# Altium schematic symbol library Nordic.SchLib: 1 symbol
Pins are listed as number, name and electrical type; pins without a type are passive.

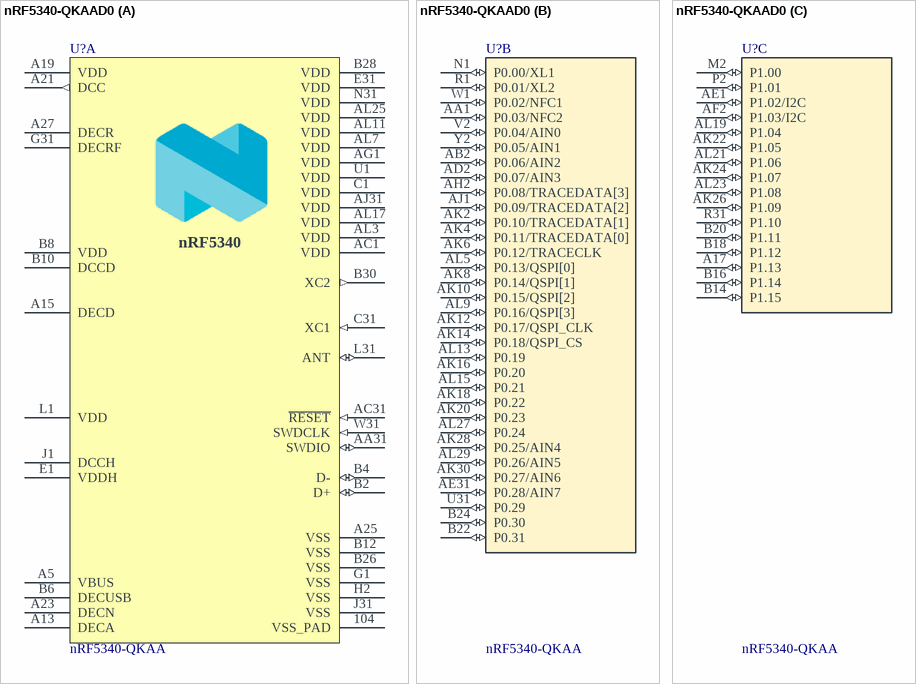
[diagram p0: symbol nRF5340-QKAAD0]

## nRF5340-QKAAD0
designator U?, comment nRF5340-QKAA
Multi-protocol Bluetooth Low Energy, IEEE 802.15.4, ANT and 2.4GHz proprietary system-on-chip; Manufacturer: Nordic Semiconductor; Manufacturer Part Number: nRF5340-QKAAD0; Pad Count: 98; Component Status: Active; Supply Voltage - Max: 5.5 V; Supply Voltage - Min: 1.7 V; Value: nRF5340-QKAA; Component Class: nRF_Devices; Author: rsk; Supplier 1 URL: https://www.mouser.sg/ProductDetail/Nordic-Semiconductor/nRF5340-CLAA-R7?qs=81r%252BiQLm7BTmf4A0GmRDng%3D%3D; Supplier 2 URL: N/A; Supplier 3 URL: N/A; Supplier 1: Mouser; Supplier 1 Part Number: nRF5340-QKAAD0; Supplier 2: Digi-Key; Supplier 2 Part Number: N/A; Supplier 3: thegioiic; Supplier 3 Part Number: N/A; Mount: SMD/SMT; Operating Temperature Max: + 85 C; Operating Temperature Min: - 40 C; Package / Case: AQFN-98; ComponentLink1Description: Datasheet; ComponentLink1URL: https://www.mouser.sg/datasheet/2/297/nRF5340_OPS_v0_5_1-1929595.pdf
footprint nRF5340-QKAAD0 (AQFN40P700X700X85_HS-99N)
part A pins: 104 VSS_PAD (power), A5 VBUS (power), A13 DECA (power), A15 DECD (power), A19 VDD (power), A21 DCC (out), A23 DECN (power), A25 VSS (power), A27 DECR (power), AA31 SWDIO (io), AC1 VDD (power), AC31 ~{RESET} (in), AG1 VDD (power), AG31 N.C. hidden, AJ31 VDD (power), AL3 VDD (power), AL7 VDD (power), AL11 VDD (power), AL17 VDD (power), AL25 VDD (power), B2 D+ (io), B4 D- (io), B6 DECUSB (power), B8 VDD (power), B10 DCCD (power), B12 VSS (power), B26 VSS (power), B28 VDD (power), B30 XC2 (out), C1 VDD (power), C31 XC1 (in), D2 N.C. hidden, E1 VDDH (power), E31 VDD (power), F2 N.C. hidden, G1 VSS (power), G31 DECRF (power), H2 VSS (power), J1 DCCH (power), J31 VSS (power), L1 VDD (power), L31 ANT (io), N31 VDD (power), T2 N.C. hidden, U1 VDD (power), W31 SWDCLK (in)
part B pins: AA1 P0.03/NFC2 (io), AB2 P0.06/AIN2 (io), AD2 P0.07/AIN3 (io), AE31 P0.28/AIN7 (io), AH2 P0.08/TRACEDATA[3] (io), AJ1 P0.09/TRACEDATA[2] (io), AK2 P0.10/TRACEDATA[1] (io), AK4 P0.11/TRACEDATA[0] (io), AK6 P0.12/TRACECLK (io), AK8 P0.14/QSPI[1] (io), AK10 P0.15/QSPI[2] (io), AK12 P0.17/QSPI_CLK (io), AK14 P0.18/QSPI_CS (io), AK16 P0.20 (io), AK18 P0.22 (io), AK20 P0.23 (io), AK28 P0.25/AIN4 (io), AK30 P0.27/AIN6 (io), AL5 P0.13/QSPI[0] (io), AL9 P0.16/QSPI[3] (io), AL13 P0.19 (io), AL15 P0.21 (io), AL27 P0.24 (io), AL29 P0.26/AIN5 (io), B22 P0.31 (io), B24 P0.30 (io), N1 P0.00/XL1 (io), R1 P0.01/XL2 (io), U31 P0.29 (io), V2 P0.04/AIN0 (io), W1 P0.02/NFC1 (io), Y2 P0.05/AIN1 (io)
part C pins: A17 P1.13 (io), AE1 P1.02/I2C (io), AF2 P1.03/I2C (io), AK22 P1.05 (io), AK24 P1.07 (io), AK26 P1.09 (io), AL19 P1.04 (io), AL21 P1.06 (io), AL23 P1.08 (io), B14 P1.15 (io), B16 P1.14 (io), B18 P1.12 (io), B20 P1.11 (io), M2 P1.00 (io), P2 P1.01 (io), R31 P1.10 (io)
part A text: nRF5340